# Altium schematic symbol library TLV840MADL10DBVR.SchLib: 2 symbols
Pins are listed as number, name and electrical type; pins without a type are passive.

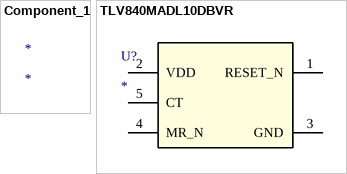
[diagram p0: symbols Component_1 to TLV840MADL10DBVR]

## Component_1
designator *

## TLV840MADL10DBVR
designator U?
No Description Available; Mfr_Name: Texas Instruments; TYPE: TYPE; RefDes: RefDes
footprint DBV0005A-IPC_A
pins: 1 RESET_N (oc), 2 VDD (power), 3 GND (power), 4 MR_N, 5 CT